# EAGLE library part WROOM_32 (library PonLib)
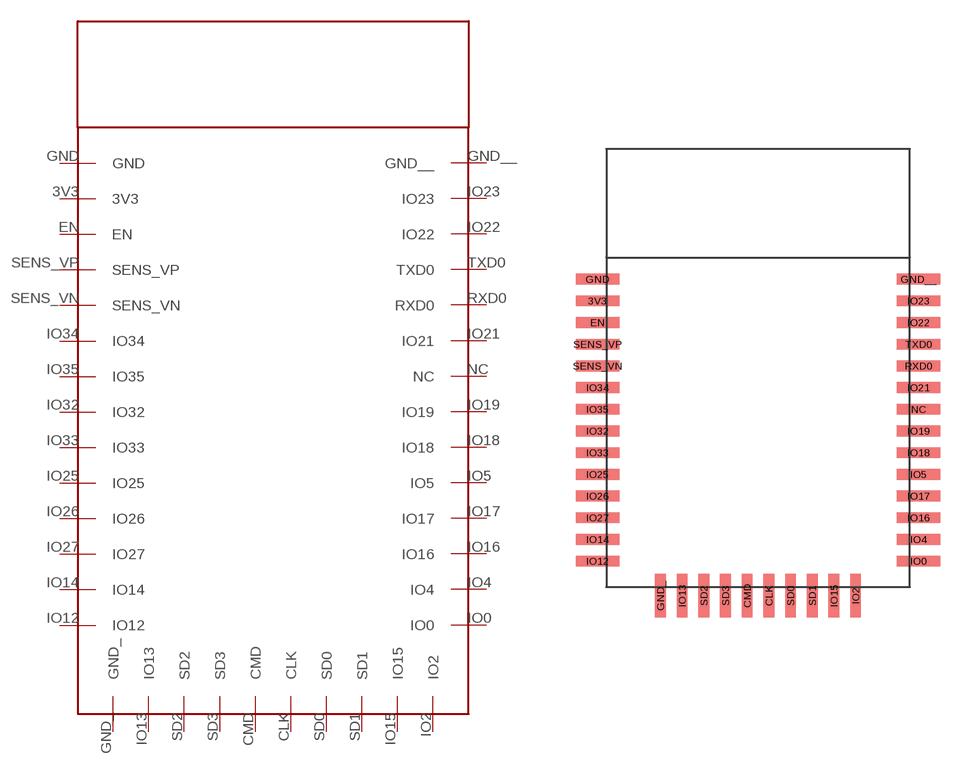
[diagram p31: symbol with the pads of WROOM_32; footprint WROOM_32]

Designator prefix -

## WROOM_32  [WROOM_32]
3V3  3V3
CLK  CLK
CMD  CMD
EN  EN
GND  GND
GND_  GND_
GND__  GND__
IO0  IO0
IO2  IO2
IO4  IO4
IO5  IO5
IO12  IO12
IO13  IO13
IO14  IO14
IO15  IO15
IO16  IO16
IO17  IO17
IO18  IO18
IO19  IO19
IO21  IO21
IO22  IO22
IO23  IO23
IO25  IO25
IO26  IO26
IO27  IO27
IO32  IO32
IO33  IO33
IO34  IO34
IO35  IO35
NC  NC
RXD0  RXD0
SD0  SD0
SD1  SD1
SD2  SD2
SD3  SD3
SENS_VN  SENS_VN
SENS_VP  SENS_VP
TXD0  TXD0

## Footprint WROOM_32 (pad centres in mm)
smd 2.54 x 0.635: 3V3 -9.398,15.24; EN -9.398,13.97; GND -9.398,16.51; GND__ 9.398,16.51; IO0 9.398,0; IO4 9.398,1.27; IO5 9.398,5.08; IO12 -9.398,0; IO14 -9.398,1.27; IO16 9.398,2.54; IO17 9.398,3.81; IO18 9.398,6.35; IO19 9.398,7.62; IO21 9.398,10.16; IO22 9.398,13.97; IO23 9.398,15.24; IO25 -9.398,5.08; IO26 -9.398,3.81; IO27 -9.398,2.54; IO32 -9.398,7.62; IO33 -9.398,6.35; IO34 -9.398,10.16; IO35 -9.398,8.89; NC 9.398,8.89; RXD0 9.398,11.43; SENS_VN -9.398,11.43; SENS_VP -9.398,12.7; TXD0 9.398,12.7
smd 0.635 x 2.54: CLK 0.635,-2.032; CMD -0.635,-2.032; GND_ -5.715,-2.032; IO2 5.715,-2.032; IO13 -4.445,-2.032; IO15 4.445,-2.032; SD0 1.905,-2.032; SD1 3.175,-2.032; SD2 -3.175,-2.032; SD3 -1.905,-2.032